# Altium footprint library PCB_Lib.PcbLib: 16 footprints
Each footprint in its own frame and in the unit in brackets; x right, y up, seen from the top. Pads: shape width x height; smd on the part's side, far side on the other; paste and mask are expansions set on the pad; w line width, h text height; cw(c..) or ccw(c..) is an arc to the next point about the centre after c.
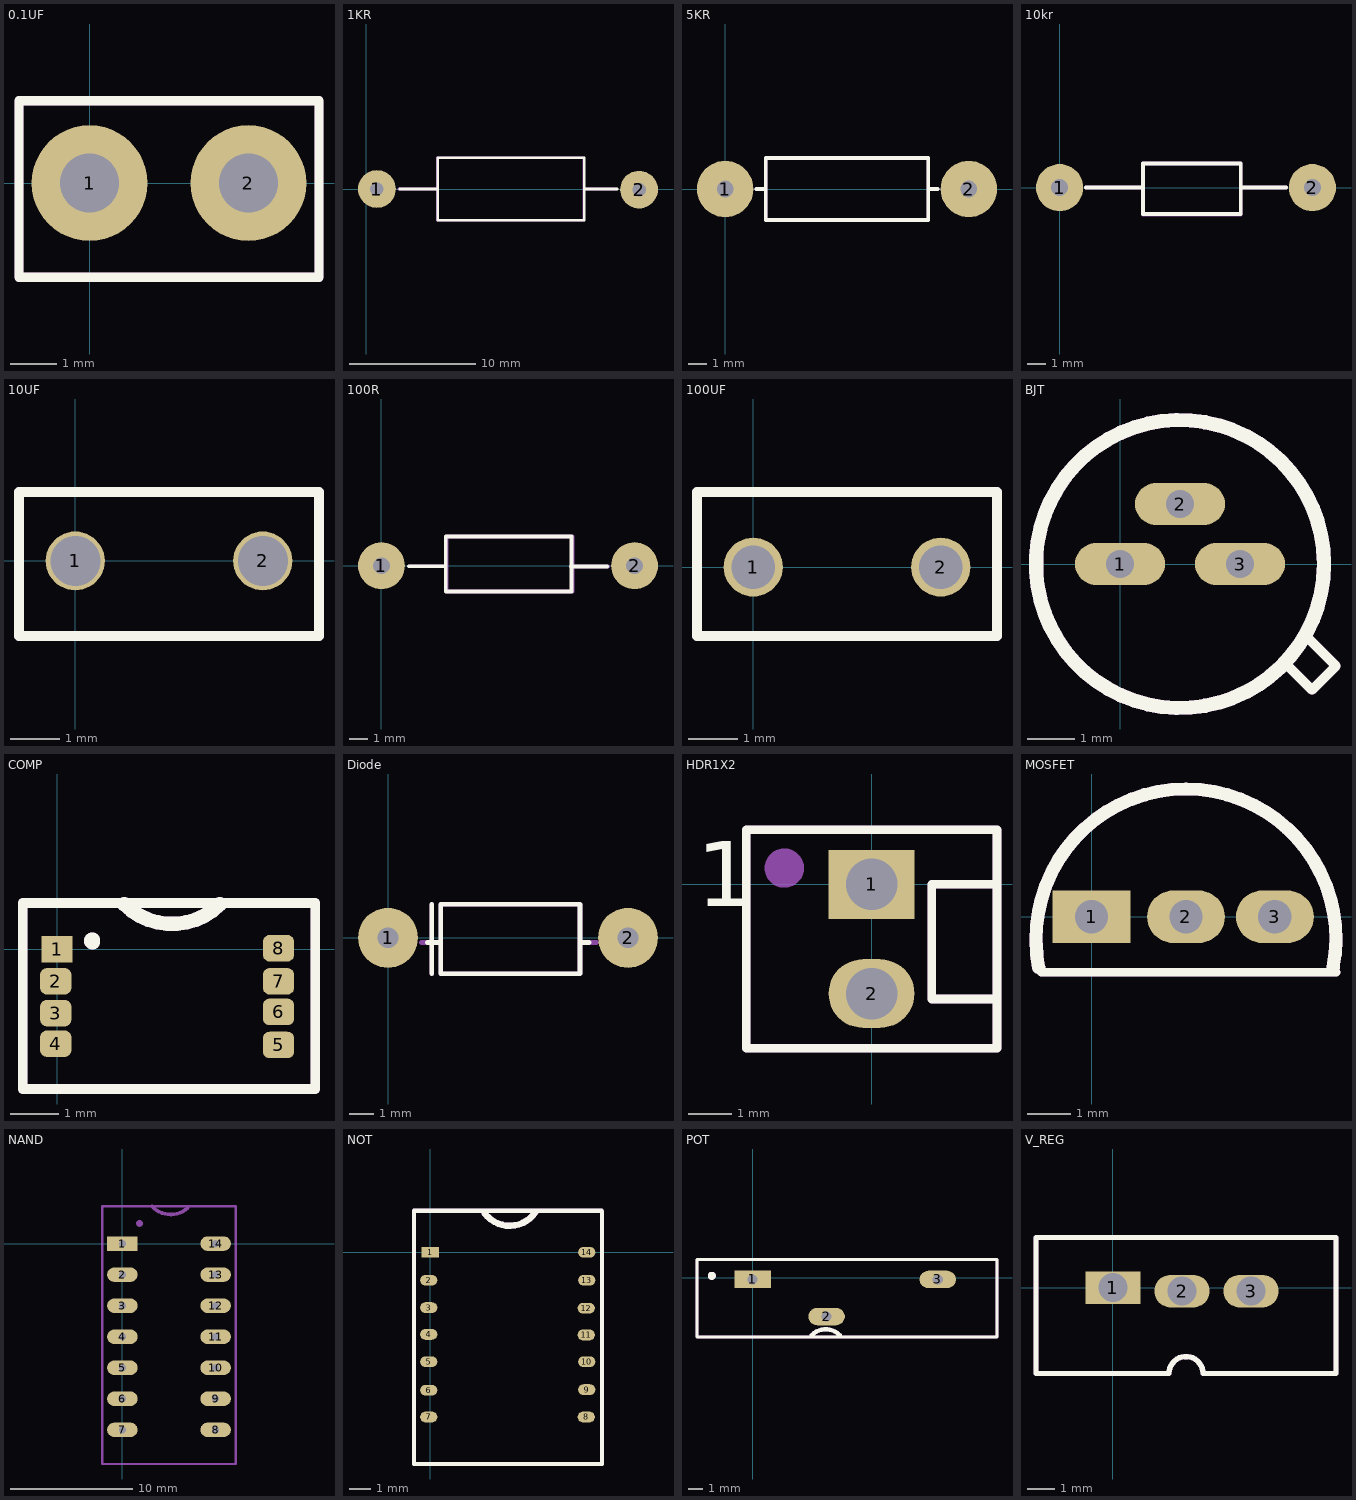
[diagram p0: the footprints below, top view; thin cyan lines are the x and y axes]

## 0.1UF [mm]
pads (2):
  round 2.5 hole 1.27: 1(0,0) 2(3.429,0)
Top Overlay:
  lines w0.2: -1.524,-2.032 -1.524,1.778 4.953,1.778 4.953,-2.032 -1.524,-2.032
Mechanical 29:
  lines w0.2: -1.524,-2.032 -1.524,1.778 4.953,1.778 4.953,-2.032 -1.524,-2.032
  text "'.Designator'" at -0.689,0.219 h1.2
3D body "C052T104K5X5CR.step": height 5.09, standoff -32.88, extent -1.258,-1.275 4.56,1.27

## 1KR [mil]
pads (2):
  round 118.11 hole 42: 1(34,0) 2(854,-2)
Top Overlay:
  lines w7.87: 105,0 224.06,0 ; 682.72,0 785,0 ; 224.06,0 224.06,98.43 682.72,98.43 682.72,-98.43 224.06,-98.43 224.06,0
Mechanical 29:
  lines w7.87: 103,0 222.06,0 ; 680.72,0 783,0 ; 222.06,0 222.06,98.43 680.72,98.43 680.72,-98.43 222.06,-98.43 222.06,0
  text "'.Designator'" at 260.87,28.62 h47.24
3D body "MR106_VIS.step": height 254.98, standoff -110, extent 16,-128 874,126.75

## 5KR [mm]
pads (2):
  round 3 hole 0.889: 1(0,0) 2(12.954,0)
Top Overlay:
  lines w0.2: 1.651,0 2.07,0 ; 10.922,0 11.303,0 ; 2.159,-1.651 2.159,1.651 10.795,1.651 10.795,-1.651 2.159,-1.651
Mechanical 29:
  lines w0.2: 1.651,0 2.07,0 ; 10.922,0 11.303,0 ; 2.159,-1.651 2.159,1.651 10.795,1.651 10.795,-1.651 2.159,-1.651
  text "'.Designator'" at 2.613,-0.035 h1.2
3D body "CMF55_VIS.step": height 2.48, standoff -2.79, extent -0.292,-1.27 13.246,1.214

## 10kr [mm]
pads (2):
  round 2.5 hole 0.889: 1(0,0) 2(13.4,0)
Top Overlay:
  lines w0.2: 1.4,0 2.156,0 4.425,0 ; 9.6,0 12,0 ; 4.425,-1.397 4.425,-0.8 4.425,0.8 4.425,1.27 9.6,1.27 9.6,-1.397 4.425,-1.397
Mechanical 29:
  lines w0.2: 1.4,0 2.156,0 4.425,0 ; 9.6,0 12,0 ; 4.425,-1.422 4.425,-0.8 4.425,0.8 4.425,1.27 9.6,1.27 9.6,-1.422 4.425,-1.422
  text "'.Designator'" at 4.525,0.333 h0.7
3D body "CPF1_VIS.step": height 2.48, standoff -2.79, extent -0.292,-1.27 13.754,1.214

## 10UF [mm]
pads (2):
  round 1.2 hole 1.016: 1(0,0) 2(3.81,0)
Top Overlay:
  lines w0.2: -1.143,-1.524 -1.143,1.397 4.953,1.397 4.953,-1.524 -1.143,-1.524
Mechanical 29:
  lines w0.2: -1.143,-1.524 -1.143,1.397 4.953,1.397 4.953,-1.524 -1.143,-1.524
  text "'.Designator'" at -0.689,-0.162 h1.2
3D body "Ceramic Cap, 5mm lead spacing, 4mm width, and 5.5mm tall, v4.step": height 4, standoff -3.3, extent -0.92,-1.27 4.73,1.184

## 100R [mm]
pads (2):
  round 2.5 hole 0.889: 1(0,0) 2(13.5,0)
Top Overlay:
  lines w0.2: 1.453,-0.025 3.378,-0.025 ; 10.116,-0.051 12.041,-0.051 ; 3.429,-1.372 3.429,1.549 10.135,1.549 10.135,-1.372 3.429,-1.372
Mechanical 29:
  lines w0.2: 1.504,-0.025 3.429,-0.025 ; 10.167,-0.051 12.092,-0.051 ; 3.48,-1.372 3.48,1.549 10.185,1.549 10.185,-1.372 3.48,-1.372
  text "'.Designator'" at 3.756,0.092 h1.2
3D body "RES_CPF1_VIS.step": height 2.48, standoff -2.79, extent -0.318,-1.214 13.83,1.27

## 100UF [mm]
pads (2):
  round 1.2 hole 0.889: 1(0,0) 2(3.81,0)
Top Overlay:
  lines w0.2: -1.143,-1.397 4.953,-1.397 4.953,1.524 -1.143,1.524 -1.143,-1.397
Mechanical 29:
  lines w0.2: -1.143,-1.397 4.953,-1.397 4.953,1.524 -1.143,1.524 -1.143,-1.397
  text "'.Designator'" at -0.816,-0.162 h1.2
3D body "Ceramic Cap, 5mm lead spacing, 4mm width, and 5.5mm tall, v4.step": height 4, standoff -3.3, extent -0.92,-1.184 4.73,1.27

## BJT [mm]
pads (3):
  oval 1.905x0.889 hole 0.6: 1(0,0) 2(1.27,1.27) 3(2.54,0)
Top Overlay:
  circle w0.3: c1.27,0 r3.048
  lines w0.2: 3.556,-2.159 4.064,-2.667 4.572,-2.159 3.937,-1.524
Mechanical 29:
  circle w0.3: c1.27,0 r3.048
  lines w0.2: 3.556,-2.159 4.064,-2.667 4.572,-2.159 3.937,-1.524
  text "'.Designator'" at -1.705,0.981 h1.2
3D body "User Library-TO-18_2N2222.step": height 4.6, standoff -3.79, extent -1.524,-2.804 4.084,2.804

## COMP [mm]
pads (8):
  rect 0.65x0.55 smd: 1(0,0)
  rrect50% 0.65x0.55 smd: 2(-0.025,-0.66) 3(-0.025,-1.321) 4(-0.025,-1.956) 5(4.597,-1.981) 6(4.597,-1.295) 7(4.597,-0.66) 8(4.597,0.025)
Top Overlay:
  lines w0.2: -0.711,-2.896 -0.711,0.965 5.359,0.965 5.359,-2.896 -0.711,-2.896
  lines w0.3: 0.742,0.203 ccw(c0.737,0.178) 0.743,0.153 ; 1.397,0.94 ccw(c2.388,1.93) 3.378,0.94
Mechanical 29:
  lines w0.2: -0.711,-2.896 -0.711,0.965 5.359,0.965 5.359,-2.896 -0.711,-2.896
  lines w0.3: 0.742,0.203 ccw(c0.737,0.178) 0.743,0.153 ; 1.397,0.94 ccw(c2.388,1.93) 3.378,0.94
  text "'.Designator'" at -0.689,-0.797 h1.2
3D body "MICRO8_3P10X3P10_ONS.step": height 1.09, standoff 0, extent -0.266,-2.464 4.788,0.534

## Diode [mm]
pads (2):
  round 2.5 hole 0.87: 1(0,0) 2(10,0)
Top Overlay:
  lines w0.2: 1.651,-0.2 2.2,-0.2 ; 1.825,-1.5 1.825,1.4 ; 8.1,-0.2 8.382,-0.2 ; 2.2,-1.5 2.2,1.4 8,1.4 8,-1.5 2.2,-1.5
Mechanical 29:
  lines w0.2: 1.4,-0.2 2.2,-0.2 ; 1.825,-1.5 1.825,1.4 ; 8.1,-0.2 8.7,-0.2 ; 2.2,-1.5 2.2,1.4 8,1.4 8,-1.5 2.2,-1.5
  text "'.Designator'" at 1.937,0.482 h0.7
3D body "Diode 1N4001.stp": height 2.5, standoff -2.3, extent -0.18,-1.2 10.38,1.3

## HDR1X2 [mm]
pads (2):
  rect 2x1.6 hole 1.2: 1(0,0)
  oval 2x1.6 hole 1.2: 2(0,-2.54)
Top Overlay:
  lines w0.2: 2.921,-2.667 1.397,-2.667 1.397,0 2.921,0 ; -2.921,-3.81 2.921,-3.81 2.921,1.27 -2.921,1.27 -2.921,-3.81
  text "1" at -4.064,-0.508 h1.52
Mechanical 29:
  circle w0.508: c-2.032,0.381 r0.203
  lines w0.2: 2.921,-2.667 1.397,-2.667 1.397,0 2.921,0 ; -2.921,-3.81 2.921,-3.81 2.921,1.27 -2.921,1.27 -2.921,-3.81
  text "'.Designator'" at -2.467,-1.813 h1.2
3D body "022292021.stp": height 11.71, standoff -3.55, extent -3.006,-3.937 2.794,1.143

## MOSFET [mil]
pads (3):
  rect 70x47.24 hole 30: 1(0,0)
  oval 70x47.24 hole 30: 2(85,0) 3(165,0)
Top Overlay:
  lines w7.87: -45,-50 220,-50
  lines w11.81: -47.5,-45.62 cw(c85,-20) 217.5,-45.62
Mechanical 29:
  lines w7.87: -45,-50 220,-50
  lines w11.81: -47.5,-45.62 cw(c85,-20) 217.5,-45.62
  text "'.Designator'" at -47.13,43.62 h47.24
3D body "TO-92-3L_5P33X5P2_ONS.step": height 210, standoff -235, extent -30.98,-42.52 195.71,102.5

## NAND [mm]
pads (14):
  rect 2.5x1.2 hole 0.6: 1(0,0)
  oval 2.5x1.2 hole 0.6: 2(0,-2.54) 3(0,-5.08) 4(0,-7.62) 5(0,-10.16) 6(0,-12.7) 7(0,-15.24) 8(7.62,-15.24) 9(7.62,-12.7) 10(7.62,-10.16) 11(7.62,-7.62) 12(7.62,-5.08) 13(7.62,-2.54) 14(7.62,0)
Mechanical 29:
  circle w0.3: c1.397,1.651 r0.127
  lines w0.2: -1.651,-18.034 9.271,-18.034 9.271,3.048 -1.651,3.048 -1.651,-18.034
  lines w0.3: 2.413,3.048 ccw(c3.937,4.445) 5.334,2.921
  text "'.Designator'" at 2.232,-0.162 h1.2
3D body "N0014A.stp": height 5.08, standoff -3.29, extent -0.127,-17.463 7.747,2.222

## NOT [mm]
pads (14):
  rect 0.8x0.5 smd: 1(0,0)
  oval 0.8x0.5 smd: 2(-0.076,-1.295) 3(-0.076,-2.565) 4(-0.076,-3.81) 5(-0.076,-5.08) 6(-0.076,-6.401) 7(-0.076,-7.645) 8(7.239,-7.645) 9(7.264,-6.375) 10(7.264,-5.08) 11(7.239,-3.835) 12(7.239,-2.591) 13(7.264,-1.295) 14(7.264,0)
Top Overlay:
  lines w0.2: -0.762,-9.83 -0.762,1.93 7.95,1.93 7.976,1.905 7.976,-9.83 -0.762,-9.83
  lines w0.3: 2.534,1.805 ccw(c3.683,2.667) 4.879,1.87
Mechanical 29:
  lines w0.2: -0.762,-9.83 -0.762,1.93 7.95,1.93 7.976,1.905 7.976,-9.83 -0.762,-9.83
  lines w0.3: 2.534,1.805 ccw(c3.683,2.667) 4.879,1.87
  text "'.Designator'" at -0.181,0.092 h1.2
3D body "SOP14_z90.stp": height 1.6, standoff 0, extent -0.307,-9.225 7.493,1.575

## POT [mm]
pads (3):
  rect 2.5x1.2 hole 0.7: 1(0,-0.127)
  oval 2.5x1.2 hole 0.7: 2(5.08,-2.667) 3(12.7,-0.127)
Top Overlay:
  circle w0.3: c-2.794,0.127 r0.127
  lines w0.2: -3.81,-4.064 16.764,-4.064 16.764,1.25 -3.81,1.25 -3.81,-4.064
  lines w0.3: 4.064,-3.937 cw(c5.016,-4.889) 5.969,-3.937
Mechanical 29:
  circle w0.3: c-2.794,0.127 r0.127
  lines w0.2: -3.81,-4.064 16.764,-4.064 16.764,1.25 -3.81,1.25 -3.81,-4.064
  lines w0.3: 4.064,-3.937 cw(c5.016,-4.889) 5.969,-3.937
  text "'.Designator'" at -2.213,-0.924 h1.2
3D body "RES3_89P_TTE.step": height 6.35, standoff -6.35, extent -3.429,-3.81 16.51,1.016

## V_REG [mil]
pads (3):
  rect 80x47.24 hole 42: 1(0,0)
  oval 80x47.24 hole 42: 2(100,-5) 3(200,-5)
Top Overlay:
  lines w7.87: -111.34,-124.21 -111.34,72.64 322.91,72.64 322.91,-124.21 130.39,-124.21 ccw(c105.79,-124.21) 81.18,-124.21 -111.34,-124.21
Mechanical 29:
  lines w7.87: -111.34,-124.21 -111.34,72.64 322.91,72.64 322.91,-124.21 130.39,-124.21 ccw(c105.79,-124.21) 81.18,-124.21 -111.34,-124.21
  text "'.Designator'" at -92.13,8.62 h47.24
3D body "NDE0003B.stp": height 733.5, standoff -394.5, extent -98,-115 302,65